# EAGLE library part MICROSD (library MICROSD)
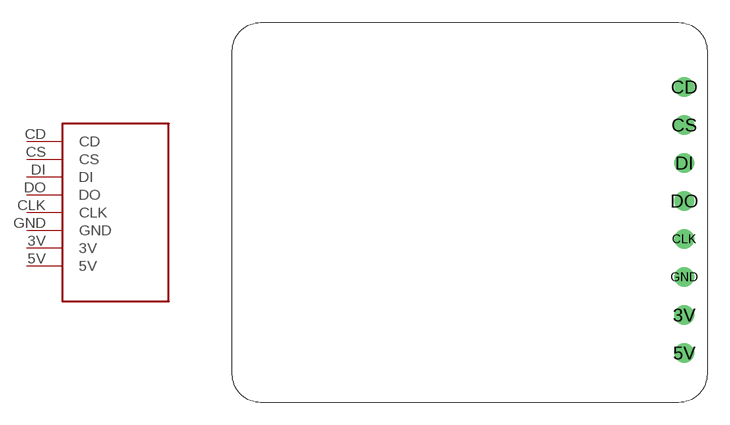
[diagram p0: symbol with the pads of MICROSD; footprint MICROSD]

Designator prefix -

## MICROSD  [MICROSD]
3V  3V
5V  5V
CD  CD
CLK  CLK
CS  CS
DI  DI
DO  DO
GND  GND

## Footprint MICROSD (pad centres in mm)
drill 0.8: 3V 30.48,6.35; 5V 30.48,3.81; CD 30.48,21.59; CLK 30.48,11.43; CS 30.48,19.05; DI 30.48,16.51; DO 30.48,13.97; GND 30.48,8.89